# Altium footprint library LD1117S33CTR.PcbLib: 2 footprints
Each footprint in its own frame and in the unit in brackets; x right, y up, seen from the top. Pads: shape width x height; smd on the part's side, far side on the other; paste and mask are expansions set on the pad; w line width, h text height; cw(c..) or ccw(c..) is an arc to the next point about the centre after c.
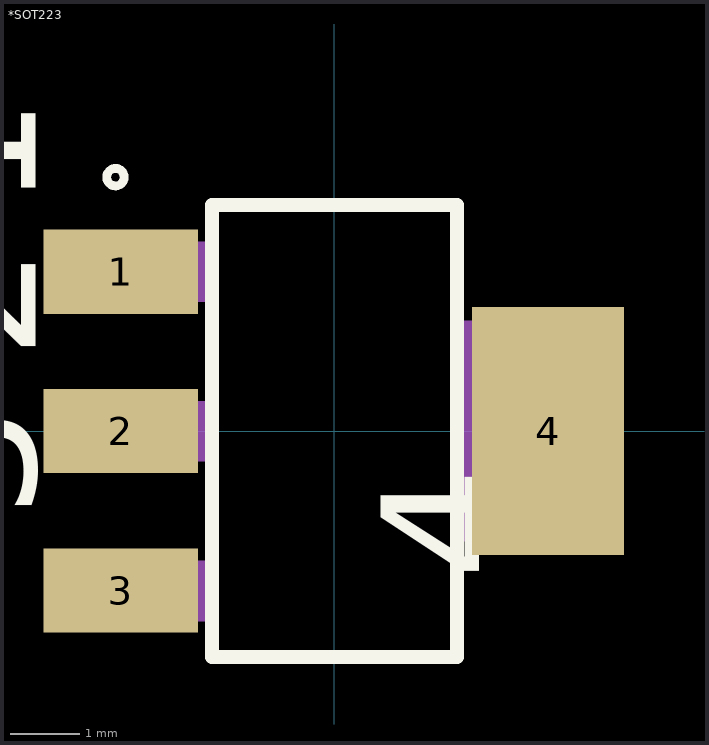
[diagram p0: the footprints below, top view; thin cyan lines are the x and y axes]

## *SOT223 [mil]
pads (4):
  rect 88x48 smd: 1(-122,91) 2(-122,0) 3(-122,-91)
  rect 86.61x141.73 smd: 4(122.01,0)
Top Overlay:
  circle w5: c-125,145 r5
  lines w8: -70,-129 -70,129 70,129 70,-129 -70,-129
  text "2" at -170.43,40.99 h73.82
  text "1" at -170.42,126.42 h73.82
  text "4" at 100.11,-84.93 h73.82
  text "3" at -170.48,-50.15 h73.82
Mechanical 4:
  region: -70.99,-74.01 -70.99,-108.44 -144.44,-108.44 -144.44,-74.01
  region: -71.11,108.11 -71.11,73.96 -144.04,73.96 -144.04,108.11
  region: -71.1,17.1 -71.1,-17.19 -144.19,-17.19 -144.19,17.1
  region: 144.05,62.95 144.05,-62.99 71.01,-62.99 71.01,62.95
  region: -71,-74 -71,-108.11 -144.11,-108.11 -144.11,-74
  region: -71.15,108.15 -71.15,73.94 -144.06,73.94 -144.06,108.15
  region: -71.04,17.04 -71.04,-17.07 -144.07,-17.07 -144.07,17.04
  region: 144.04,62.96 144.04,-63 71,-63 71,62.96
  region: -70.99,-74.01 -70.99,-108.44 -144.44,-108.44 -144.44,-74.01
  region: -71.11,108.11 -71.11,73.96 -144.04,73.96 -144.04,108.11
  region: -71.1,17.1 -71.1,-17.19 -144.19,-17.19 -144.19,17.1
  region: 144.05,62.95 144.05,-62.99 71.01,-62.99 71.01,62.95
  region: -71,-74 -71,-108.11 -144.11,-108.11 -144.11,-74
  region: -71.15,108.15 -71.15,73.94 -144.06,73.94 -144.06,108.15
  region: -71.04,17.04 -71.04,-17.07 -144.07,-17.07 -144.07,17.04
  region: 144.04,62.96 144.04,-63 71,-63 71,62.96

## PCBComponent_1 [mil]